# Altium footprint library 2020-06-03_14-55-29.PcbLib: 3 footprints
Each footprint in its own frame and in the unit in brackets; x right, y up, seen from the top. Pads: shape width x height; smd on the part's side, far side on the other; paste and mask are expansions set on the pad; w line width, h text height; cw(c..) or ccw(c..) is an arc to the next point about the centre after c.
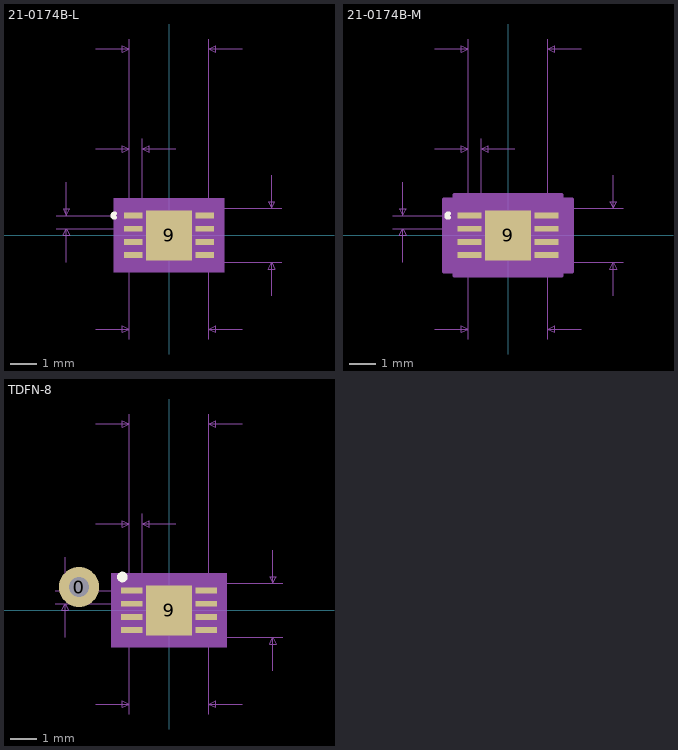
[diagram p0: the footprints below, top view; thin cyan lines are the x and y axes]

## 21-0174B-L [mm]
pads (9):
  rect 0.708x0.225 smd paste+0 mask+0: 1(-1.37,0.75) 2(-1.37,0.25) 3(-1.37,-0.25) 4(-1.37,-0.75) 5(1.37,-0.75) 6(1.37,-0.25) 7(1.37,0.25) 8(1.37,0.75)
  rect 1.753x1.905 smd paste+0 mask+0: 9(0,0)
Top Overlay:
  lines w0.152: -2.057,0.676 cw(c-2.076,0.75) -2.057,0.824
Mechanical 5:
  region: 2.105,-1.41 -2.105,-1.41 -2.105,1.41 2.105,1.41
Mechanical 7:
  lines w0.025: -4.291,0.25 -1.37,0.25 ; -4.291,0.75 -1.37,0.75 ; -3.91,-1.02 -3.91,0.25 ; -3.91,2.02 -3.91,0.75 ; -2.794,-3.569 -1.524,-3.569 ; -2.794,3.29 -1.524,3.29 ; -2.794,7.1 -1.524,7.1 ; -1.524,-3.95 -1.524,-1.029 ; -1.524,3.671 -1.524,0.75 -1.524,7.481 ; -1.016,0.75 -1.016,3.671 ; 0.254,3.29 -1.016,3.29 ; 1.524,-3.95 1.524,-1.029 4.291,-1.029 ; 1.524,0.75 1.524,7.481 ; 1.524,1.029 4.291,1.029 ; 2.794,-3.569 1.524,-3.569 ; 2.794,7.1 1.524,7.1 ; 3.91,-2.299 3.91,-1.029 ; 3.91,2.299 3.91,1.029 ; -3.91,0.25 -4.037,-0.004 -3.783,-0.004 -3.91,0.25 ; -3.91,0.75 -4.037,1.004 -3.783,1.004 -3.91,0.75 ; -1.524,-3.569 -1.778,-3.442 -1.778,-3.696 -1.524,-3.569 ; -1.524,3.29 -1.778,3.417 -1.778,3.163 -1.524,3.29 ; -1.524,7.1 -1.778,7.227 -1.778,6.973 -1.524,7.1 ; -1.016,3.29 -0.762,3.417 -0.762,3.163 -1.016,3.29 ; 1.524,-3.569 1.778,-3.442 1.778,-3.696 1.524,-3.569 ; 1.524,7.1 1.778,7.227 1.778,6.973 1.524,7.1 ; 3.91,-1.029 3.783,-1.283 4.037,-1.283 3.91,-1.029 ; 3.91,1.029 3.783,1.283 4.037,1.283 3.91,1.029
  text "Default Padstyle: r71_22" at -7.62,-10.427 h1.27
  text "Heat Tab Padstyle: r175_190" at -8.572,-11.951 h1.27
  text "Alt 1 Padstyle: b152_229h76" at -8.572,-14.999 h1.27
  text "Alt 2 Padstyle: b229_152h76" at -8.572,-16.523 h1.27
  text "0.12in/3.048mm" at -2.222,7.608 h0.64
  text "0.02in/0.508mm" at -3.492,3.798 h0.64
  text "0.02in/0.5mm" at -8.228,0.182 h0.64
  text "0.081in/2.057mm" at 4.418,-0.318 h0.64
  text "0.12in/3.048mm" at -2.222,-4.712 h0.64
Mechanical 13:
  lines w0: -0.305,1.029 ccw(c0,1.029) 0.305,1.029
  lines w0.025: -1.524,-1.029 1.524,-1.029 1.524,1.029 -1.524,1.029 -1.524,-1.029
Mechanical 15:
  region: -1.626,-0.964 -1.826,-0.964 -1.826,0.964 -1.626,0.964 -1.626,1.13 1.626,1.13 1.626,0.964 1.826,0.964 1.826,-0.964 1.626,-0.964 1.626,-1.13 -1.626,-1.13
  lines w0.152: -1.826,-0.964 -1.826,0.964 -1.626,0.964 -1.626,1.13 1.626,1.13 1.626,0.964 1.826,0.964 1.826,-0.964 1.626,-0.964 1.626,-1.13 -1.626,-1.13 -1.626,-0.964 -1.826,-0.964
3D body: height 0.25, standoff 0, extent 0,0 0.254,0.254

## 21-0174B-M [mm]
pads (9):
  rect 0.908x0.225 smd paste+0 mask+0: 1(-1.47,0.75) 2(-1.47,0.25) 3(-1.47,-0.25) 4(-1.47,-0.75) 5(1.47,-0.75) 6(1.47,-0.25) 7(1.47,0.25) 8(1.47,0.75)
  rect 1.753x1.905 smd paste+0 mask+0: 9(0,0)
Top Overlay:
  lines w0.152: -2.257,0.676 cw(c-2.276,0.75) -2.257,0.824
Mechanical 5:
  region: 2.305,-1.41 -2.305,-1.41 -2.305,1.41 2.305,1.41
Mechanical 7:
  lines w0.025: -4.391,0.25 -1.47,0.25 ; -4.391,0.75 -1.47,0.75 ; -4.01,-1.02 -4.01,0.25 ; -4.01,2.02 -4.01,0.75 ; -2.794,-3.569 -1.524,-3.569 ; -2.794,3.29 -1.524,3.29 ; -2.794,7.1 -1.524,7.1 ; -1.524,-3.95 -1.524,-1.029 ; -1.524,3.671 -1.524,0.75 -1.524,7.481 ; -1.016,0.75 -1.016,3.671 ; 0.254,3.29 -1.016,3.29 ; 1.524,-3.95 1.524,-1.029 4.391,-1.029 ; 1.524,0.75 1.524,7.481 ; 1.524,1.029 4.391,1.029 ; 2.794,-3.569 1.524,-3.569 ; 2.794,7.1 1.524,7.1 ; 4.01,-2.299 4.01,-1.029 ; 4.01,2.299 4.01,1.029 ; -4.01,0.25 -4.137,-0.004 -3.883,-0.004 -4.01,0.25 ; -4.01,0.75 -4.137,1.004 -3.883,1.004 -4.01,0.75 ; -1.524,-3.569 -1.778,-3.442 -1.778,-3.696 -1.524,-3.569 ; -1.524,3.29 -1.778,3.417 -1.778,3.163 -1.524,3.29 ; -1.524,7.1 -1.778,7.227 -1.778,6.973 -1.524,7.1 ; -1.016,3.29 -0.762,3.417 -0.762,3.163 -1.016,3.29 ; 1.524,-3.569 1.778,-3.442 1.778,-3.696 1.524,-3.569 ; 1.524,7.1 1.778,7.227 1.778,6.973 1.524,7.1 ; 4.01,-1.029 3.883,-1.283 4.137,-1.283 4.01,-1.029 ; 4.01,1.029 3.883,1.283 4.137,1.283 4.01,1.029
  text "Default Padstyle: r91_22" at -7.62,-10.427 h1.27
  text "Heat Tab Padstyle: r175_190" at -8.572,-11.951 h1.27
  text "Alt 1 Padstyle: b152_229h76" at -8.572,-14.999 h1.27
  text "Alt 2 Padstyle: b229_152h76" at -8.572,-16.523 h1.27
  text "0.12in/3.048mm" at -2.222,7.608 h0.64
  text "0.02in/0.508mm" at -3.492,3.798 h0.64
  text "0.02in/0.5mm" at -8.328,0.182 h0.64
  text "0.081in/2.057mm" at 4.518,-0.318 h0.64
  text "0.12in/3.048mm" at -2.222,-4.712 h0.64
Mechanical 13:
  lines w0: -0.305,1.029 ccw(c0,1.029) 0.305,1.029
  lines w0.025: -1.524,-1.029 1.524,-1.029 1.524,1.029 -1.524,1.029 -1.524,-1.029
Mechanical 15:
  region: -2.032,-1.37 -2.432,-1.37 -2.432,1.37 -2.032,1.37 -2.032,1.537 2.032,1.537 2.032,1.37 2.432,1.37 2.432,-1.37 2.032,-1.37 2.032,-1.537 -2.032,-1.537
  lines w0.152: -2.432,-1.37 -2.432,1.37 -2.032,1.37 -2.032,1.537 2.032,1.537 2.032,1.37 2.432,1.37 2.432,-1.37 2.032,-1.37 2.032,-1.537 -2.032,-1.537 -2.032,-1.37 -2.432,-1.37
3D body: height 0.25, standoff 0, extent 0,0 0.254,0.254

## TDFN-8 [mm] "MAX31740"
pads (10):
  round 1.524 hole 0.762: 0(-3.429,0.889)
  rect 0.808x0.225 smd paste+0 mask+0: 1(-1.42,0.75) 2(-1.42,0.25) 3(-1.42,-0.25) 4(-1.42,-0.75) 5(1.42,-0.75) 6(1.42,-0.25) 7(1.42,0.25) 8(1.42,0.75)
  rect 1.753x1.905 smd paste+0 mask+0: 9(0,0)
Top Overlay:
  circle w0.25: c-1.778,1.27 r0.076
Mechanical 5:
  region: 2.205,-1.41 -2.205,-1.41 -2.205,1.41 2.205,1.41
Mechanical 7:
  lines w0.025: -4.341,0.25 -1.42,0.25 ; -4.341,0.75 -1.42,0.75 ; -3.96,-1.02 -3.96,0.25 ; -3.96,2.02 -3.96,0.75 ; -2.794,-3.569 -1.524,-3.569 ; -2.794,3.29 -1.524,3.29 ; -2.794,7.1 -1.524,7.1 ; -1.524,-3.95 -1.524,-1.029 ; -1.524,3.671 -1.524,0.75 -1.524,7.481 ; -1.016,0.75 -1.016,3.671 ; 0.254,3.29 -1.016,3.29 ; 1.524,-3.95 1.524,-1.029 4.341,-1.029 ; 1.524,0.75 1.524,7.481 ; 1.524,1.029 4.341,1.029 ; 2.794,-3.569 1.524,-3.569 ; 2.794,7.1 1.524,7.1 ; 3.96,-2.299 3.96,-1.029 ; 3.96,2.299 3.96,1.029 ; -3.96,0.25 -4.087,-0.004 -3.833,-0.004 -3.96,0.25 ; -3.96,0.75 -4.087,1.004 -3.833,1.004 -3.96,0.75 ; -1.524,-3.569 -1.778,-3.442 -1.778,-3.696 -1.524,-3.569 ; -1.524,3.29 -1.778,3.417 -1.778,3.163 -1.524,3.29 ; -1.524,7.1 -1.778,7.227 -1.778,6.973 -1.524,7.1 ; -1.016,3.29 -0.762,3.417 -0.762,3.163 -1.016,3.29 ; 1.524,-3.569 1.778,-3.442 1.778,-3.696 1.524,-3.569 ; 1.524,7.1 1.778,7.227 1.778,6.973 1.524,7.1 ; 3.96,-1.029 3.833,-1.283 4.087,-1.283 3.96,-1.029 ; 3.96,1.029 3.833,1.283 4.087,1.283 3.96,1.029
  text "Default Padstyle: r81_22" at -7.62,-10.427 h1.27
  text "Heat Tab Padstyle: r175_190" at -8.572,-11.951 h1.27
  text "Alt 1 Padstyle: b152_229h76" at -8.572,-14.999 h1.27
  text "Alt 2 Padstyle: b229_152h76" at -8.572,-16.523 h1.27
  text "0.12in/3.048mm" at -2.222,7.608 h0.64
  text "0.02in/0.508mm" at -3.492,3.798 h0.64
  text "0.02in/0.5mm" at -8.278,0.182 h0.64
  text "0.081in/2.057mm" at 4.468,-0.318 h0.64
  text "0.12in/3.048mm" at -2.222,-4.712 h0.64
Mechanical 13:
  lines w0: -0.305,1.029 ccw(c0,1.029) 0.305,1.029
  lines w0.025: -1.524,-1.029 1.524,-1.029 1.524,1.029 -1.524,1.029 -1.524,-1.029
3D body: height 0.25, standoff 0, extent 0,0 0.254,0.254
3D body "21-0174B.step": height 0.81, standoff 0, extent -1.524,-1.029 1.524,1.029